# Altium schematic symbol library 2N6491G.SchLib: 1 symbol
Pins are listed as number, name and electrical type; pins without a type are passive.

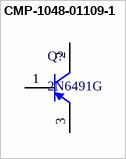
[diagram p0: symbol CMP-1048-01109-1]

## CMP-1048-01109-1
designator Q?, comment 2N6491G
Complementary Silicon Plastic Power Transistor, 3-Pin TO-220, Pb-Free, Tube; Manufacturer: On Semiconductor; fT Min (MHz): 5; Polarity: PNP; IC Continuous (A): 15; ComponentLink1URL: http://www.onsemi.com/; PackageReference: TO-220-3-221A-09; ComponentLink1Description: Manufacturer URL; ComponentLink3Description: Package Specification; ComponentLink2URL: http://www.onsemi.com/pub_link/Collateral/2N6487-D.PDF; RoHS: TRUE; PackageDescription: 3-Pin Flange Mount, Vertical Straight Lead, Body 9.97 x 4.445 mm, Pitch 2.54 mm; DatasheetVersion: Rev. 15; ComponentLink3URL: http://www.onsemi.com/pub_link/Collateral/221A-09.PDF; Packing: Tube; ComponentLink2Description: Datasheet; PartNumber: 2N6491G; PackageVersion: Rev. AG, 09/2011; Mounting Technology: Through Hole
footprint ONSC-TO-220-3-221A-09 (FM, 3-Leads, Body 10.3x4.85mm, Pitch 2.54mm)
pins: 1 B, 2 C, 3 E